# Altium footprint library SDR0805.PcbLib: 1 footprints
Each footprint in its own frame and in the unit in brackets; x right, y up, seen from the top. Pads: shape width x height; smd on the part's side, far side on the other; paste and mask are expansions set on the pad; w line width, h text height; cw(c..) or ccw(c..) is an arc to the next point about the centre after c.
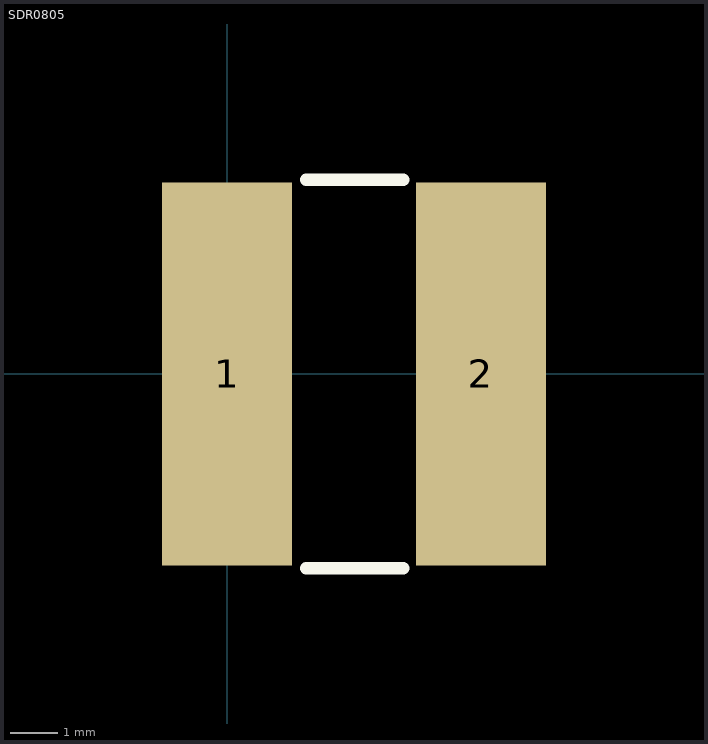
[diagram p0: the footprint, top view; thin cyan lines are the x and y axes]

## SDR0805 [mil]
pads (2):
  rect 107x315 smd: 1(0,0) 2(209,0)
Top Overlay:
  lines w10: 65,-160 145,-160 ; 65,160 145,160
3D body: height 208.66, standoff 0, extent -50,-153.54 257.09,153.54